# Altium schematic symbol library SCH - DRIVER - LED - TI TLC5905_PAP_64.SchLib: 1 symbol
Pins are listed as number, name and electrical type; pins without a type are passive.

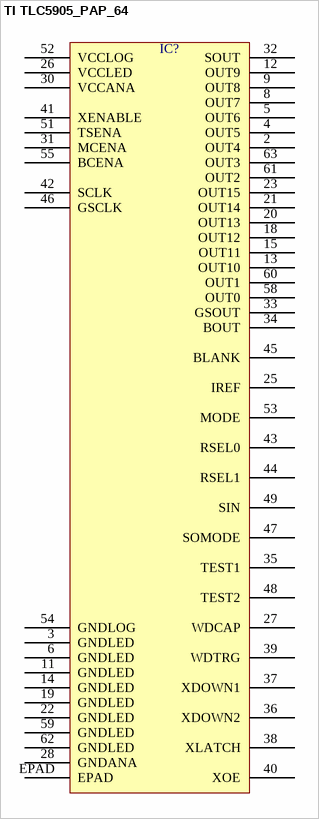
[diagram p0: symbol TI TLC5905_PAP_64]

## TI TLC5905_PAP_64
designator IC?  (value not drawn)
pins: 2 OUT4, 3 GNDLED, 4 OUT5, 5 OUT6, 6 GNDLED, 8 OUT7, 9 OUT8, 11 GNDLED, 12 OUT9, 13 OUT10, 14 GNDLED, 15 OUT11, 18 OUT12, 19 GNDLED, 20 OUT13, 21 OUT14, 22 GNDLED, 23 OUT15, 25 IREF, 26 VCCLED, 27 WDCAP, 28 GNDANA, 30 VCCANA, 31 MCENA, 32 SOUT, 33 GSOUT, 34 BOUT, 35 TEST1, 36 XDOWN2, 37 XDOWN1, 38 XLATCH, 39 WDTRG, 40 XOE, 41 XENABLE, 42 SCLK, 43 RSEL0, 44 RSEL1, 45 BLANK, 46 GSCLK, 47 SOMODE, 48 TEST2, 49 SIN, 51 TSENA, 52 VCCLOG, 53 MODE, 54 GNDLOG, 55 BCENA, 58 OUT0, 59 GNDLED, 60 OUT1, 61 OUT2, 62 GNDLED, 63 OUT3, EPAD